# Altium schematic symbol library Capacitor.SchLib: 2 symbols
Pins are listed as number, name and electrical type; pins without a type are passive.

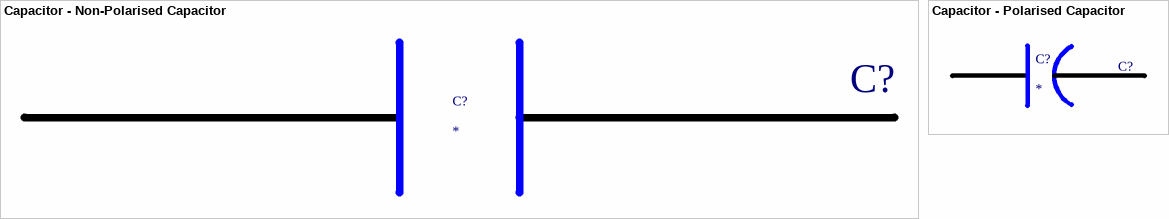
[diagram p0: symbols Capacitor - Non-Polarised Capacitor to Capacitor - Polarised Capacitor]

## Capacitor - Non-Polarised Capacitor
designator C?

## Capacitor - Polarised Capacitor
designator C?